# Altium schematic symbol library Motion Controller.SCHLIB: 117 symbols
Pins are listed as number, name and electrical type; pins without a type are passive.

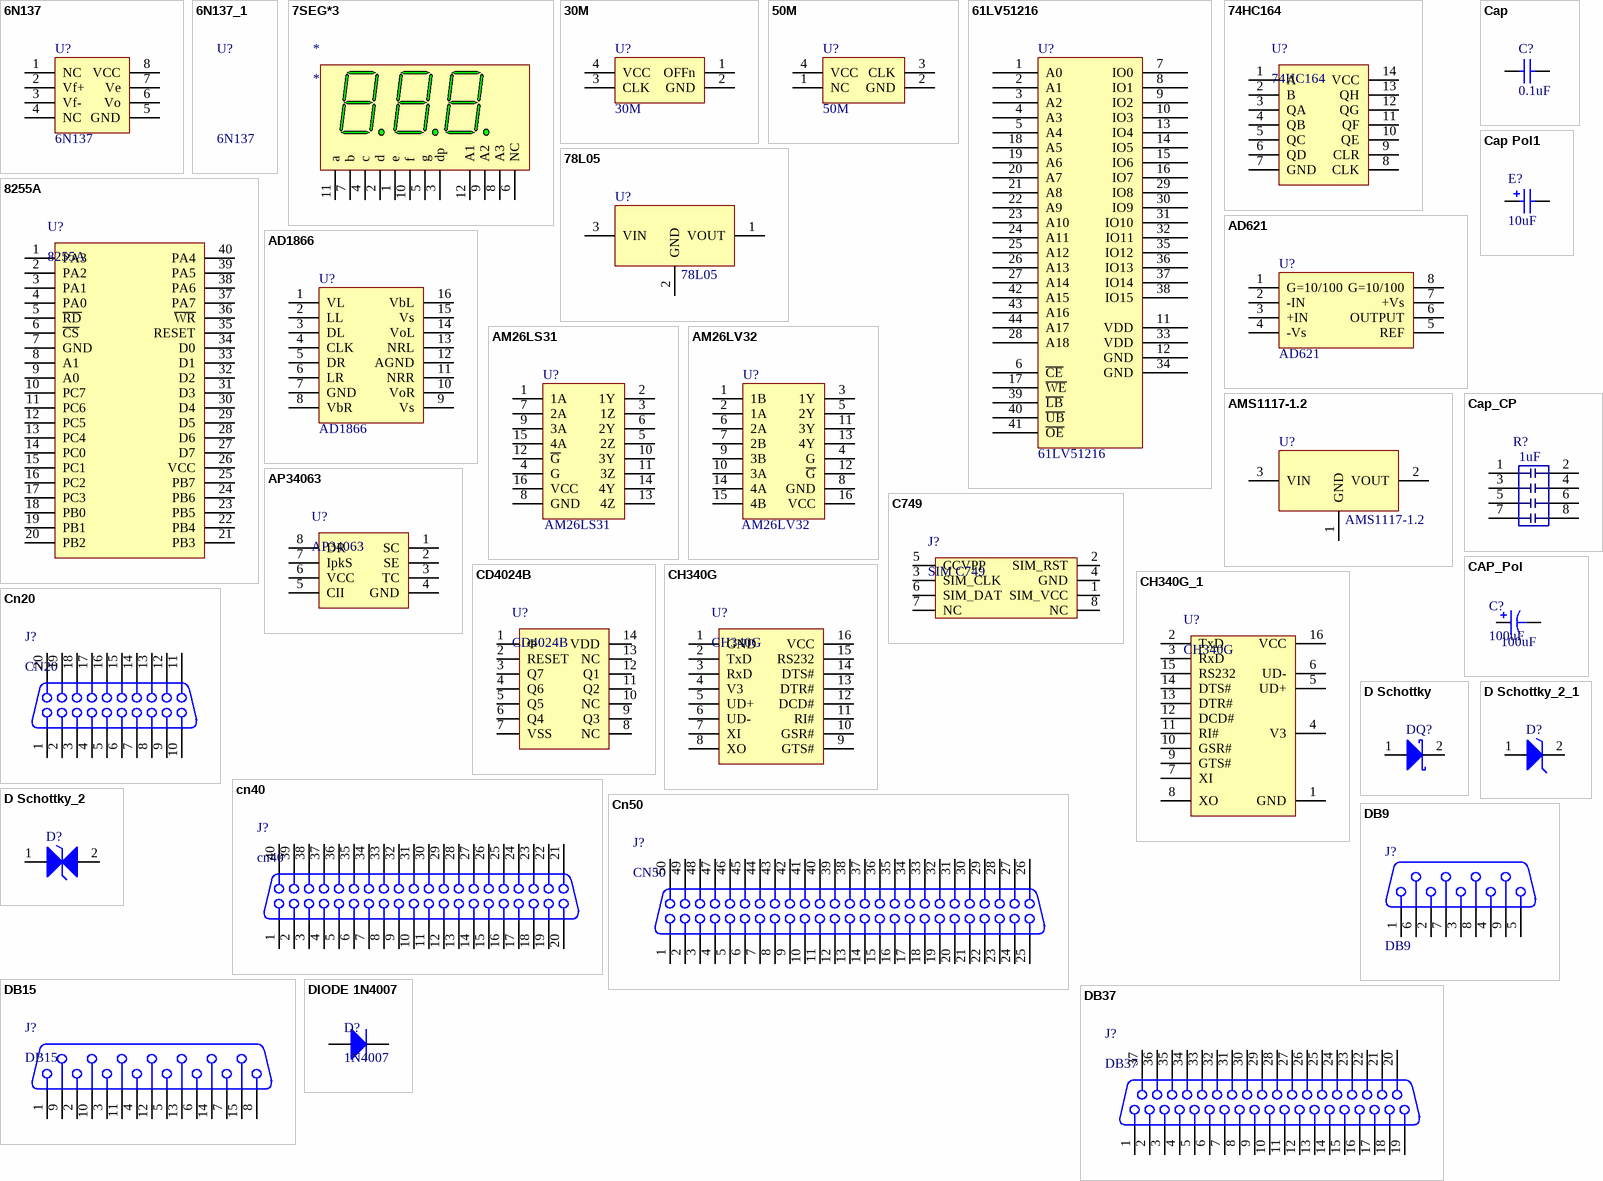
[diagram p0: symbols 6N137 to DIODE 1N4007]

## 6N137
designator U?
footprint SOP-6N137
pins: 1 NC, 2 Vf+, 3 Vf-, 4 NC, 5 GND, 6 Vo, 7 Ve, 8 VCC

## 6N137_1
designator U?, comment 6N137
footprint SOP-6N137

## 7SEG*3
designator *
pins: 1 e "Digits (1&2) Cathode", 2 d "Digits (1&2) Cathode", 3 dp "Digits (1&2) Cathode", 4 c "Digits (1&2) Cathode", 5 g "Digits (1&2) Cathode", 6 NC "Common Anode", 7 b "Digits (1&2) Cathode", 8 A3 "Common Anode", 9 A2 "Common Anode", 10 f "Digits (1&2) Cathode", 11 a "Digits (1&2) Cathode", 12 A1 "Common Anode"

## 30M
designator U?
jingzhen
footprint JingZhen
pins: 1 OFFn, 2 GND, 3 CLK, 4 VCC

## 50M
designator U?
jingzhen
footprint JingZhen
pins: 1 NC, 2 GND, 3 CLK, 4 VCC

## 61LV51216
designator U?
512K x 16
footprint TSOP-44
pins: 1 A0, 2 A1, 3 A2, 4 A3, 5 A4, 6 ~{CE}, 7 IO0, 8 IO1, 9 IO2, 10 IO3, 11 VDD, 12 GND, 13 IO4, 14 IO5, 15 IO6, 16 IO7, 17 ~{WE}, 18 A5, 19 A6, 20 A7, 21 A8, 22 A9, 23 A10, 24 A11, 25 A12, 26 A13, 27 A14, 28 A18, 29 IO8, 30 IO9, 31 IO10, 32 IO11, 33 VDD, 34 GND, 35 IO12, 36 IO13, 37 IO14, 38 IO15, 39 ~{LB}, 40 ~{UB}, 41 ~{OE}, 42 A15, 43 A16, 44 A17

## 74HC164
designator U?
pins: 1 A, 2 B, 3 QA, 4 QB, 5 QC, 6 QD, 7 GND, 8 CLK, 9 CLR, 10 QE, 11 QF, 12 QG, 13 QH, 14 VCC

## 78L05
designator U?
footprint SOT89 (SOT89, 3-Leads, Body 4.50x2.45mm, Pitch 1.50mm, Lead Span 4.1mm, IPC Medium Density)
pins: 1 VOUT, 2 GND, 3 VIN

## 8255A
designator U?
pins: 1 PA3, 2 PA2, 3 PA1, 4 PA0, 5 ~{RD}, 6 ~{CS}, 7 GND, 8 A1, 9 A0, 10 PC7, 11 PC6, 12 PC5, 13 PC4, 14 PC0, 15 PC1, 16 PC2, 17 PC3, 18 PB0, 19 PB1, 20 PB2, 21 PB3, 22 PB4, 23 PB5, 24 PB6, 25 PB7, 26 VCC, 27 D7, 28 D6, 29 D5, 30 D4, 31 D3, 32 D2, 33 D1, 34 D0, 35 RESET, 36 ~{WR}, 37 PA7, 38 PA6, 39 PA5, 40 PA4

## AD621
designator U?
footprint SOIC-8
pins: 1 G=10/100, 2 -IN, 3 +IN, 4 -Vs, 5 REF, 6 OUTPUT, 7 +Vs, 8 G=10/100

## AD1866
designator U?
footprint SOIC-16B
pins: 1 VL, 2 LL, 3 DL, 4 CLK, 5 DR, 6 LR, 7 GND, 8 VbR, 9 Vs, 10 VoR, 11 NRR, 12 AGND, 13 NRL, 14 VoL, 15 Vs, 16 VbL

## AM26LS31
designator U?
footprint SOIC-16
pins: 1 1A, 2 1Y, 3 1Z, 4 G, 5 2Z, 6 2Y, 7 2A, 8 GND, 9 3A, 10 3Y, 11 3Z, 12 ~{G}, 13 4Z, 14 4Y, 15 4A, 16 VCC

## AM26LV32
designator U?
footprint SOIC-16
pins: 1 1B, 2 1A, 3 1Y, 4 G, 5 2Y, 6 2A, 7 2B, 8 GND, 9 3B, 10 3A, 11 3Y, 12 ~{G}, 13 4Y, 14 4A, 15 4B, 16 VCC

## AMS1117-1.2
designator U?
footprint SOT230P700X180-4N (SOT223, 4-Leads, Body 6.7x7.3mm (max), Pitch 2.30mm, IPC Medium Density)
pins: 1 GND, 2 VOUT, 3 VIN

## AP34063
designator U?
pins: 1 SC, 2 SE, 3 TC, 4 GND, 5 CII, 6 VCC, 7 IpkS, 8 DR

## C749
designator J?, comment SIM C749
footprint SIM-A-Auto
pins: 1 SIM_VCC, 2 SIM_RST, 3 SIM_CLK, 4 GND, 5 CCVPP, 6 SIM_DAT, 7 NC, 8 NC

## Cap
designator C?, comment 0.1uF
Capacitor; Published: 8-Jun-2000; LatestRevisionDate: 17-Jul-2002; LatestRevisionNote: Re-released for DXP Platform.; PackageReference: RAD-0.3; Publisher: Altium Limited; Value: 0.1uF
simulation model CAP (Capacitor)
signal-integrity model Cap
footprint C0805
pins: 1, 2

## Cap Pol1
designator E?, comment 10uF
Cap Pol1; Published: 8-Jun-2000; LatestRevisionDate: 17-Jul-2002; LatestRevisionNote: Re-released for DXP Platform.; PackageReference: RB7.6-15; Publisher: Altium Limited; Value: 10uF
simulation model CAP (Capacitor)
signal-integrity model Cap Pol
footprint C3528
pins: 1, 2
1 alternate drawing of the same symbol

## Cap_CP
designator R?, comment 1uF
paizu; Value: 1uF
footprint 8P4R-0603
pins: 1 0, 2, 3, 4, 5, 6, 7, 8

## CAP_Pol
designator C?, comment 100uF
Value: 100uF
pins: 1, 2

## CD4024B
designator U?
pins: 1 Φ, 2 RESET, 3 Q7, 4 Q6, 5 Q5, 6 Q4, 7 VSS, 8 NC, 9 Q3, 10 NC, 11 Q2, 12 Q1, 13 NC, 14 VDD

## CH340G
designator U?
pins: 1 GND, 2 TxD, 3 RxD, 4 V3, 5 UD+, 6 UD-, 7 XI, 8 XO, 9 GTS#, 10 GSR#, 11 RI#, 12 DCD#, 13 DTR#, 14 DTS#, 15 RS232, 16 VCC

## CH340G_1
designator U?, comment CH340G
pins: 1 GND, 2 TxD, 3 RxD, 4 V3, 5 UD+, 6 UD-, 7 XI, 8 XO, 9 GTS#, 10 GSR#, 11 RI#, 12 DCD#, 13 DTR#, 14 DTS#, 15 RS232, 16 VCC

## Cn20
designator J?, comment CN20
pins: 1, 2, 3, 4, 5, 6, 7, 8, 9, 10, 11, 12, 13, 14, 15, 16, 17, 18, 19, 20

## cn40
designator J?
footprint CN40
pins: 1, 2, 3, 4, 5, 6, 7, 8, 9, 10, 11, 12, 13, 14, 15, 16, 17, 18, 19, 20, 21, 22, 23, 24, 25, 26, 27, 28, 29, 30, 31, 32, 33, 34, 35, 36, 37, 38, 39, 40

## Cn50
designator J?, comment CN50
footprint DB50
pins: 1, 2, 3, 4, 5, 6, 7, 8, 9, 10, 11, 12, 13, 14, 15, 16, 17, 18, 19, 20, 21, 22, 23, 24, 25, 26, 27, 28, 29, 30, 31, 32, 33, 34, 35, 36, 37, 38, 39, 40, 41, 42, 43, 44, 45, 46, 47, 48, 49, 50

## D Schottky
designator DQ?, comment 1N5822  (value not drawn)
Schottky Diode; Published: 8-Jun-2000; LatestRevisionDate: 17-Jul-2002; LatestRevisionNote: Re-released for DXP Platform.; PackageReference: SMB; Publisher: Altium Limited; Code_JEDEC: DO-214-AA
footprint SMB
simulation model SKYDIODE (Diode)
pins: 1 A, 2 K

## D Schottky_2
designator D?, comment SMBJ15CA  (value not drawn)
Schottky Diode; Published: 8-Jun-2000; LatestRevisionDate: 17-Jul-2002; LatestRevisionNote: Re-released for DXP Platform.; PackageReference: SMB; Publisher: Altium Limited; Code_JEDEC: DO-214-AA
footprint SMB
simulation model SKYDIODE (Diode)
pins: 1 A, 2 K

## D Schottky_2_1
designator D?, comment SMBJ15CA  (value not drawn)
Schottky Diode; Published: 8-Jun-2000; LatestRevisionDate: 17-Jul-2002; LatestRevisionNote: Re-released for DXP Platform.; PackageReference: SMB; Publisher: Altium Limited; Code_JEDEC: DO-214-AA
footprint SMB
simulation model SKYDIODE (Diode)
pins: 1 A, 2 K

## DB9
designator J?
footprint DB9
pins: 1, 2, 3, 4, 5, 6, 7, 8, 9

## DB15
designator J?
footprint DB15
pins: 1, 2, 3, 4, 5, 6, 7, 8, 9, 10, 11, 12, 13, 14, 15

## DB37
designator J?
footprint DB37
pins: 1, 2, 3, 4, 5, 6, 7, 8, 9, 10, 11, 12, 13, 14, 15, 16, 17, 18, 19, 20, 21, 22, 23, 24, 25, 26, 27, 28, 29, 30, 31, 32, 33, 34, 35, 36, 37

## DIODE 1N4007
designator D?, comment 1N4007
DIODE 1N4007
footprint SOD123
pins: 1 A, 2 K

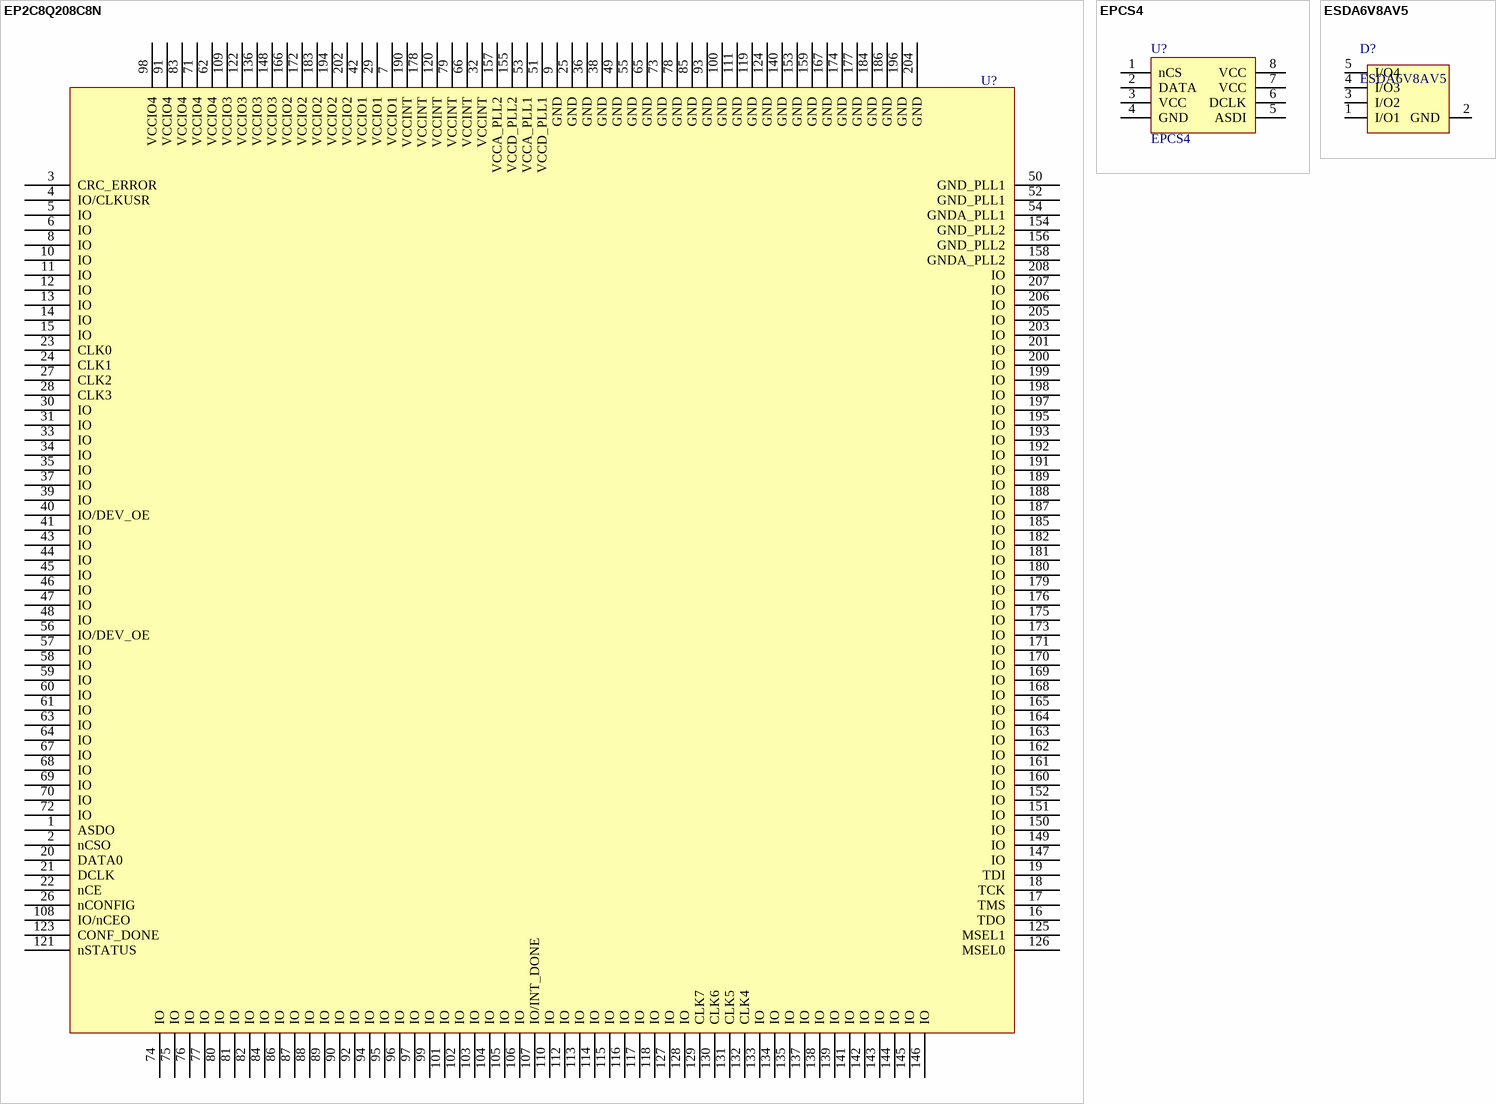
[diagram p1: symbols EP2C8Q208C8N to ESDA6V8AV5]

## EP2C8Q208C8N
designator U?  (value not drawn)
footprint EP2C8Q208C8N (SQFP, 208-Leads, Body 30.6x30.6mm (max), Pitch 0.50mm, IPC Medium Density)
pins: 1 ASDO, 2 nCSO, 3 CRC_ERROR, 4 IO/CLKUSR, 5 IO, 6 IO, 7 VCCIO1, 8 IO, 9 GND, 10 IO, 11 IO, 12 IO, 13 IO, 14 IO, 15 IO, 16 TDO, 17 TMS, 18 TCK, 19 TDI, 20 DATA0, 21 DCLK, 22 nCE, 23 CLK0, 24 CLK1, 25 GND, 26 nCONFIG, 27 CLK2, 28 CLK3, 29 VCCIO1, 30 IO, 31 IO, 32 VCCINT, 33 IO, 34 IO, 35 IO, 36 GND, 37 IO, 38 GND, 39 IO, 40 IO/DEV_OE, 41 IO, 42 VCCIO1, 43 IO, 44 IO, 45 IO, 46 IO, 47 IO, 48 IO, 49 GND, 50 GND_PLL1, 51 VCCD_PLL1, 52 GND_PLL1, 53 VCCA_PLL1, 54 GNDA_PLL1, 55 GND, 56 IO/DEV_OE, 57 IO, 58 IO, 59 IO, 60 IO, 61 IO, 62 VCCIO4, 63 IO, 64 IO, 65 GND, 66 VCCINT, 67 IO, 68 IO, 69 IO, 70 IO, 71 VCCIO4, 72 IO, 73 GND, 74 IO, 75 IO, 76 IO, 77 IO, 78 GND, 79 VCCINT, 80 IO, 81 IO, 82 IO, 83 VCCIO4, 84 IO, 85 GND, 86 IO, 87 IO, 88 IO, 89 IO, 90 IO, 91 VCCIO4, 92 IO, 93 GND, 94 IO, 95 IO, 96 IO, 97 IO, 98 VCCIO4, 99 IO, 100 GND, 101 IO, 102 IO, 103 IO, 104 IO, 105 IO, 106 IO, 107 IO/INT_DONE, 108 IO/nCEO, 109 VCCIO3, 110 IO, 111 GND, 112 IO, 113 IO, 114 IO, 115 IO, 116 IO, 117 IO, 118 IO, 119 GND, 120 VCCINT, 121 nSTATUS, 122 VCCIO3, 123 CONF_DONE, 124 GND, 125 MSEL1, 126 MSEL0, 127 IO, 128 IO, 129 CLK7, 130 CLK6, 131 CLK5, 132 CLK4, 133 IO, 134 IO, 135 IO, 136 VCCIO3, 137 IO, 138 IO, 139 IO, 140 GND, 141 IO, 142 IO, 143 IO, 144 IO, 145 IO, 146 IO, 147 IO, 148 VCCIO3, 149 IO, 150 IO, 151 IO, 152 IO, 153 GND, 154 GND_PLL2, 155 VCCD_PLL2, 156 GND_PLL2, 157 VCCA_PLL2, 158 GNDA_PLL2, 159 GND, 160 IO, 161 IO, 162 IO, 163 IO, 164 IO, 165 IO, 166 VCCIO2, 167 GND, 168 IO, 169 IO, 170 IO, 171 IO, 172 VCCIO2, 173 IO, 174 GND, 175 IO, 176 IO, 177 GND, 178 VCCINT, 179 IO, 180 IO, 181 IO, 182 IO, 183 VCCIO2, 184 GND, 185 IO, 186 GND, 187 IO, 188 IO, 189 IO, 190 VCCINT, 191 IO, 192 IO, 193 IO, 194 VCCIO2, 195 IO, 196 GND, 197 IO, 198 IO, 199 IO, 200 IO, 201 IO, 202 VCCIO2, 203 IO, 204 GND, 205 IO, 206 IO, 207 IO, 208 IO

## EPCS4
designator U?
footprint SOIC-8
pins: 1 nCS, 2 DATA, 3 VCC, 4 GND, 5 ASDI, 6 DCLK, 7 VCC, 8 VCC

## ESDA6V8AV5
designator D?
footprint SOT-553 (SOTFL, 5-Leads, Body 1.60x1.60mm, Pitch 0.50mm, IPC Medium Density)
pins: 1 I/O1, 2 GND, 3 I/O2, 4 I/O3, 5 I/O4

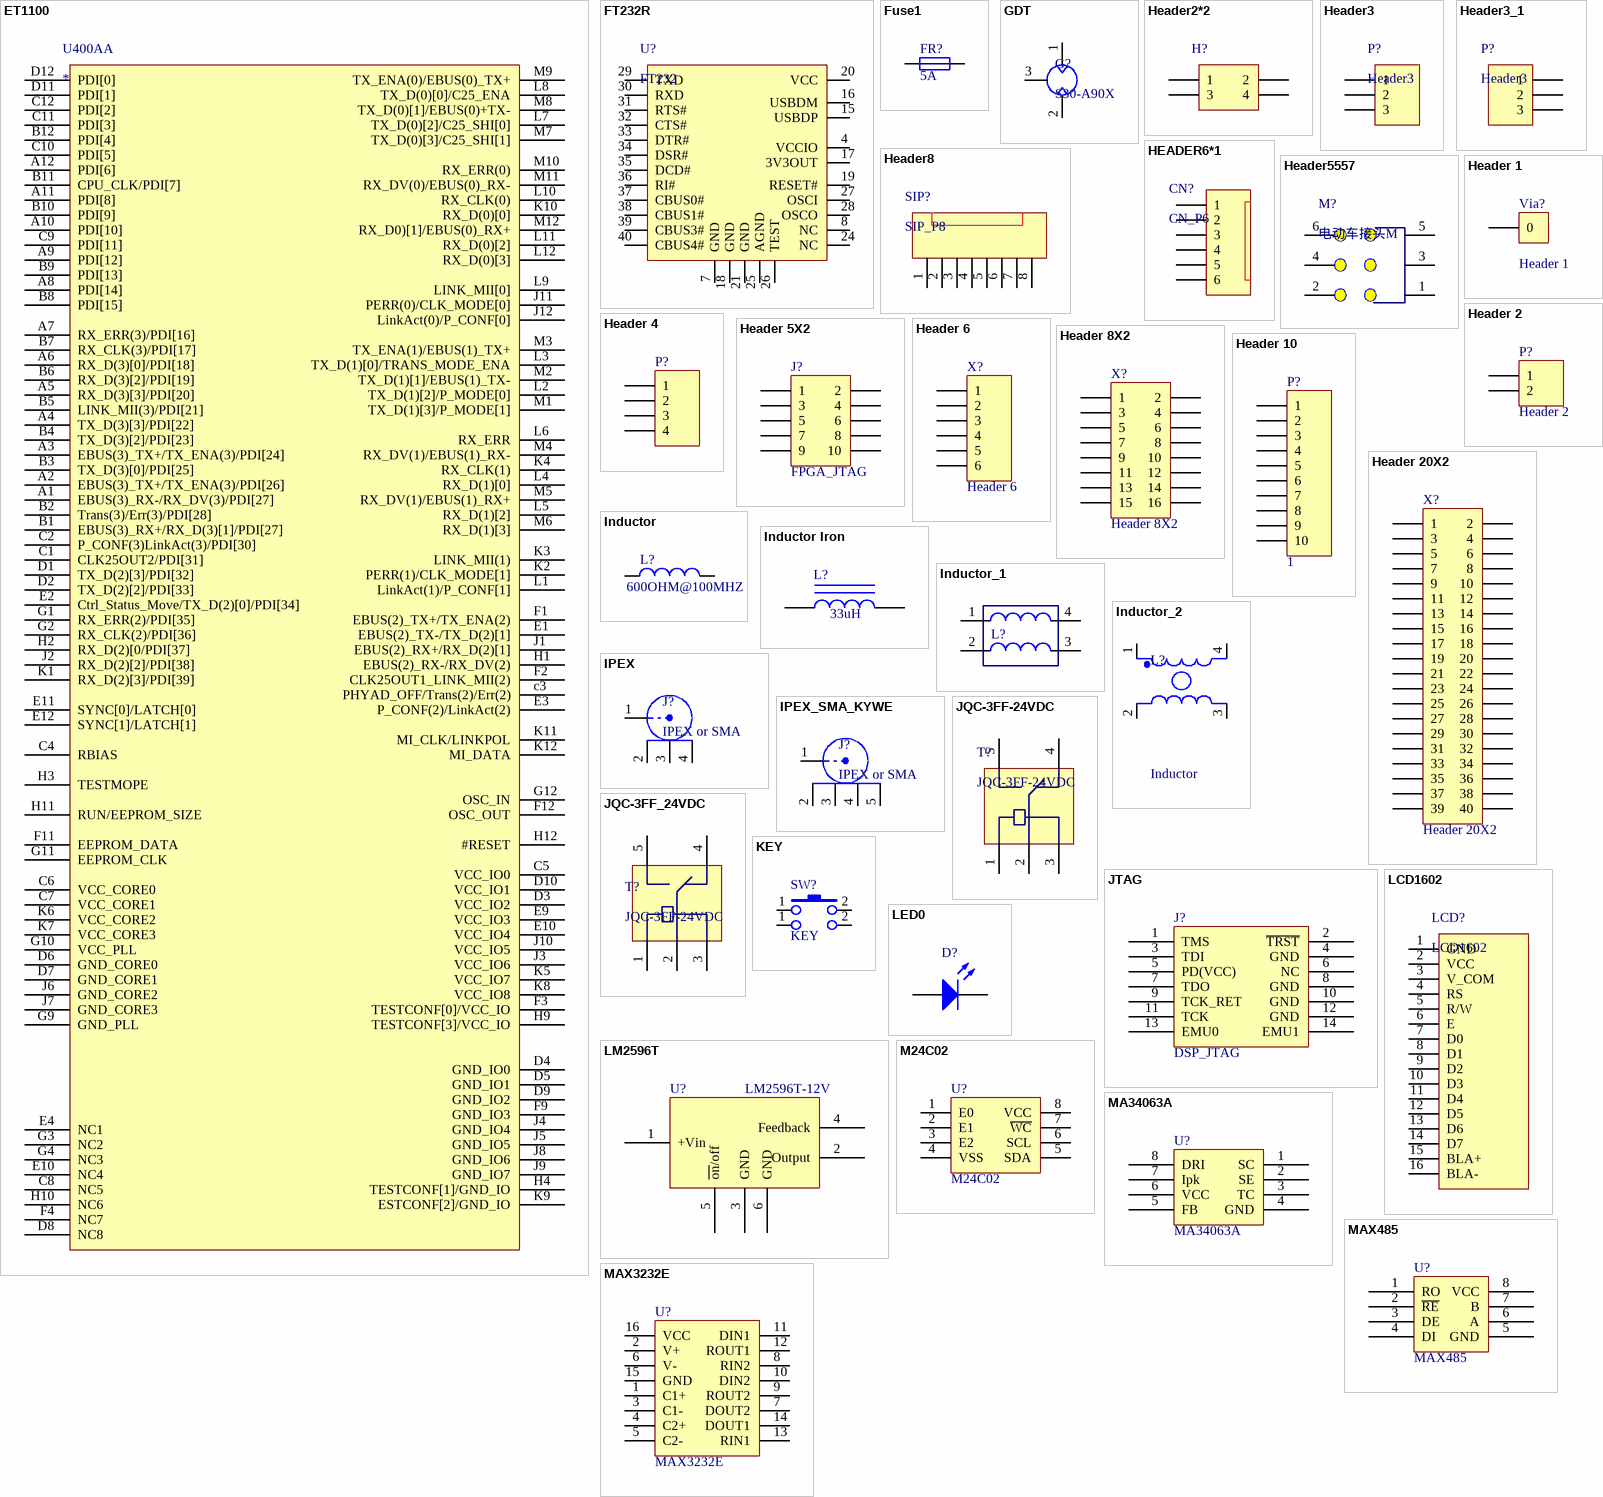
[diagram p2: symbols ET1100 to MAX3232E]

## ET1100
designator U400AA
footprint TFBGA-128
pins: A1 EBUS(3)_RX-/RX_DV(3)/PDI[27], A2 EBUS(3)_TX+/TX_ENA(3)/PDI[26], A3 EBUS(3)_TX+/TX_ENA(3)/PDI[24], A4 TX_D(3)[3]/PDI[22], A5 RX_D(3)[3]/PDI[20], A6 RX_D(3)[0]/PDI[18], A7 RX_ERR(3)/PDI[16], A8 PDI[14], A9 PDI[12], A10 PDI[10], A11 PDI[8], A12 PDI[6], B1 EBUS(3)_RX+/RX_D(3)[1]/PDI[27], B2 Trans(3)/Err(3)/PDI[28], B3 TX_D(3)[0]/PDI[25], B4 TX_D(3)[2]/PDI[23], B5 LINK_MII(3)/PDI[21], B6 RX_D(3)[2]/PDI[19], B7 RX_CLK(3)/PDI[17], B8 PDI[15], B9 PDI[13], B10 PDI[9], B11 CPU_CLK/PDI[7], B12 PDI[4], C1 CLK25OUT2/PDI[31], C2 P_CONF(3)LinkAct(3)/PDI[30], c3 PHYAD_OFF/Trans(2)/Err(2), C4 RBIAS, C5 VCC_IO0, C6 VCC_CORE0, C7 VCC_CORE1, C8 NC5, C9 PDI[11], C10 PDI[5], C11 PDI[3], C12 PDI[2], D1 TX_D(2)[3]/PDI[32], D2 TX_D(2)[2]/PDI[33], D3 VCC_IO2, D4 GND_IO0, D5 GND_IO1, D6 GND_CORE0, D7 GND_CORE1, D8 NC8, D9 GND_IO2, D10 VCC_IO1, D11 PDI[1], D12 PDI[0], E1 EBUS(2)_TX-/TX_D(2)[1], E2 Ctrl_Status_Move/TX_D(2)[0]/PDI[34], E3 P_CONF(2)/LinkAct(2), E4 NC1, E9 VCC_IO3, E10 NC4, E10 VCC_IO4, E11 SYNC[0]/LATCH[0], E12 SYNC[1]/LATCH[1], F1 EBUS(2)_TX+/TX_ENA(2), F2 CLK25OUT1_LINK_MII(2), F3 TESTCONF[0]/VCC_IO, F4 NC7, F9 GND_IO3, F11 EEPROM_DATA, F12 OSC_OUT, G1 RX_ERR(2)/PDI[35], G2 RX_CLK(2)/PDI[36], G3 NC2, G4 NC3, G9 GND_PLL, G10 VCC_PLL, G11 EEPROM_CLK, G12 OSC_IN, H1 EBUS(2)_RX-/RX_DV(2), H2 RX_D(2)[0/PDI[37], H3 TESTMOPE, H4 TESTCONF[1]/GND_IO, H9 TESTCONF[3]/VCC_IO, H10 NC6, H11 RUN/EEPROM_SIZE, H12 #RESET, J1 EBUS(2)_RX+/RX_D(2)[1], J2 RX_D(2)[2]/PDI[38], J3 VCC_IO6, J4 GND_IO4, J5 GND_IO5, J6 GND_CORE2, J7 GND_CORE3, J8 GND_IO6, J9 GND_IO7, J10 VCC_IO5, J11 PERR(0)/CLK_MODE[0], J12 LinkAct(0)/P_CONF[0], K1 RX_D(2)[3]/PDI[39], K2 PERR(1)/CLK_MODE[1], K3 LINK_MII(1), K4 RX_CLK(1), K5 VCC_IO7, K6 VCC_CORE2, K7 VCC_CORE3, K8 VCC_IO8, K9 ESTCONF[2]/GND_IO, K10 RX_D(0)[0], K11 MI_CLK/LINKPOL, K12 MI_DATA, L1 LinkAct(1)/P_CONF[1], L2 TX_D(1)[2]/P_MODE[0], L3 TX_D(1)[0]/TRANS_MODE_ENA, L4 RX_D(1)[0], L5 RX_D(1)[2], L6 RX_ERR, L7 TX_D(0)[2]/C25_SHI[0], L8 TX_D(0)[0]/C25_ENA, L9 LINK_MII[0], L10 RX_CLK(0), L11 RX_D(0)[2], L12 RX_D(0)[3], M1 TX_D(1)[3]/P_MODE[1], M2 TX_D(1)[1]/EBUS(1)_TX-, M3 TX_ENA(1)/EBUS(1)_TX+, M4 RX_DV(1)/EBUS(1)_RX-, M5 RX_DV(1)/EBUS(1)_RX+, M6 RX_D(1)[3], M7 TX_D(0)[3]/C25_SHI[1], M8 TX_D(0)[1]/EBUS(0)+TX-, M9 TX_ENA(0)/EBUS(0)_TX+, M10 RX_ERR(0), M11 RX_DV(0)/EBUS(0)_RX-, M12 RX_D0)[1]/EBUS(0)_RX+

## FT232R
designator U?, comment FT232
pins: 4 VCCIO, 7 GND, 8 NC, 15 USBDP, 16 USBDM, 17 3V3OUT, 18 GND, 19 RESET#, 20 VCC, 21 GND, 24 NC, 25 AGND, 26 TEST, 27 OSCI, 28 OSCO, 29 TXD, 30 RXD, 31 RTS#, 32 CTS#, 33 DTR#, 34 DSR#, 35 DCD#, 36 RI#, 37 CBUS0#, 38 CBUS1#, 39 CBUS3#, 40 CBUS4#

## Fuse1
designator FR?, comment 5A
Resistor; Published: 8-Jun-2000; LatestRevisionDate: 17-Jul-2002; LatestRevisionNote: Re-released for DXP Platform.; PackageReference: AXIAL-0.4; Publisher: Altium Limited; Value: 5A
simulation model RESISTOR (Resistor)
signal-integrity model Res
footprint R1206
pins: 1, 2

## GDT
designator G?, comment S30-A90X
footprint GDT 5×7.6mm
pins: 1, 2, 3

## Header2*2
designator H?, comment P2*2  (value not drawn)
pins: 1, 2, 3, 4

## Header3
designator P?
pins: 1, 2, 3

## Header3_1
designator P?, comment Header3
pins: 1, 2, 3

## HEADER6*1
designator CN?, comment CN_P6
footprint CN1*6
pins: 1, 2, 3, 4, 5, 6

## Header8
designator SIP?, comment SIP_P8
pins: 1, 2, 3, 4, 5, 6, 7, 8

## Header5557
designator M?, comment 电动车接头M
pins: 1, 2, 3, 4, 5, 6

## Header 1
designator Via?
Header, 2-Pin; LatestRevisionDate: 17-Jul-2002; LatestRevisionNote: Re-released for DXP Platform.; Publisher: Altium Limited
footprint Via
pins: 0

## Header 2
designator P?
Header, 2-Pin; LatestRevisionDate: 17-Jul-2002; LatestRevisionNote: Re-released for DXP Platform.; Publisher: Altium Limited
footprint HDR1X2
pins: 1, 2

## Header 4
designator P?  (value not drawn)
Header, 4-Pin; LatestRevisionDate: 17-Jul-2002; LatestRevisionNote: Re-released for DXP Platform.; Publisher: Altium Limited
footprint HDR1X4
pins: 1, 2, 3, 4

## Header 5X2
designator J?, comment FPGA_JTAG
Header, 5-Pin, Dual row; LatestRevisionDate: 17-Jul-2002; LatestRevisionNote: Re-released for DXP Platform.; Publisher: Altium Limited
footprint HDR2X5
pins: 1, 2, 3, 4, 5, 6, 7, 8, 9, 10

## Header 6
designator X?
Header, 6-Pin; LatestRevisionDate: 17-Jul-2002; LatestRevisionNote: Re-released for DXP Platform.; Publisher: Altium Limited
footprint HDR1X6
pins: 1, 2, 3, 4, 5, 6

## Header 8X2
designator X?
Header, 8-Pin, Dual row; LatestRevisionDate: 17-Jul-2002; LatestRevisionNote: Re-released for DXP Platform.; Publisher: Altium Limited
footprint HDR2X8
pins: 1, 2, 3, 4, 5, 6, 7, 8, 9, 10, 11, 12, 13, 14, 15, 16

## Header 10
designator P?, comment 1
Header, 10-Pin; LatestRevisionDate: 17-Jul-2002; LatestRevisionNote: Re-released for DXP Platform.; Publisher: Altium Limited
footprint HDR1X10
pins: 1, 2, 3, 4, 5, 6, 7, 8, 9, 10

## Header 20X2
designator X?
Header, 20-Pin, Dual row; LatestRevisionDate: 17-Jul-2002; LatestRevisionNote: Re-released for DXP Platform.; Publisher: Altium Limited
footprint HDR2X20
pins: 1, 2, 3, 4, 5, 6, 7, 8, 9, 10, 11, 12, 13, 14, 15, 16, 17, 18, 19, 20, 21, 22, 23, 24, 25, 26, 27, 28, 29, 30, 31, 32, 33, 34, 35, 36, 37, 38, 39, 40

## Inductor
designator L?, comment 600OHM@100MHZ
Inductor; Code_IEC: 1005; Published: 8-Jun-2000; LatestRevisionDate: 17-Jul-2002; LatestRevisionNote: Re-released for DXP Platform.; PackageReference: 0402-A; Publisher: Altium Limited; Code_JEITA: 0402; Value: 600OHM@100MHZ
simulation model INDUCTOR (Inductor)
signal-integrity model Inductor
footprint L1210
pins: 1, 2

## Inductor Iron
designator L?, comment 33uH
Magnetic-Core Inductor; Published: 24-Mar-1999; LatestRevisionDate: 17-Jul-2002; LatestRevisionNote: Re-released for DXP Platform.; PackageReference: AXIAL-0.9; Publisher: Altium Limited; Value: 33uH
footprint L-RB.2/.4
simulation model INDUCTOR (Inductor)
signal-integrity model Inductor Iron
pins: 1, 2

## Inductor_1
designator L?
Inductor; Code_IEC: 1005; Published: 8-Jun-2000; LatestRevisionDate: 17-Jul-2002; LatestRevisionNote: Re-released for DXP Platform.; PackageReference: 0402-A; Publisher: Altium Limited; Code_JEITA: 0402
simulation model INDUCTOR (Inductor)
signal-integrity model Inductor
footprint L1210
pins: 1, 2, 3, 4

## Inductor_2
designator L?, comment Inductor
Transformer (Coupled Inductor Model); Published: 8-Jun-2000; LatestRevisionDate: 17-Jul-2002; LatestRevisionNote: Re-released for DXP Platform.; PackageReference: TRF_4; Publisher: Altium Limited; PackageDescription: Transformer; 4 Leads
footprint TRF_4 (Transformer; 4 Leads)
simulation model TRANSFORMER (Transformer)
pins: 1 Sec+, 2 Pri+, 3 Pri-, 4 Sec-

## IPEX
designator J?, comment IPEX or SMA
footprint IPEX-U.FL-SMT
pins: 1 RF, 2, 3, 4

## IPEX_SMA_KYWE
designator J?, comment IPEX or SMA
footprint IPEX_SMA_KYWE
pins: 1 RF, 2, 3, 4, 5

## JQC-3FF-24VDC
designator T?
pins: 1, 2, 3, 4, 5

## JQC-3FF_24VDC
designator T?, comment JQC-3FF-24VDC
pins: 1, 2, 3, 4, 5

## JTAG
designator J?, comment DSP_JTAG
footprint HDR2X7
pins: 1 TMS, 2 ~{TRST}, 3 TDI, 4 GND, 5 PD(VCC), 6 NC, 7 TDO, 8 GND, 9 TCK_RET, 10 GND, 11 TCK, 12 GND, 13 EMU0, 14 EMU1

## KEY
designator SW?
footprint key
pins: 1, 1, 2, 2

## LCD1602
designator LCD?
pins: 1 GND, 2 VCC, 3 V_COM, 4 RS, 5 R/W, 6 E, 7 D0, 8 D1, 9 D2, 10 D3, 11 D4, 12 D5, 13 D6, 14 D7, 15 BLA+, 16 BLA-

## LED0
designator D?, comment LED green  (value not drawn)
LED1; Published: 8-Jun-2000; LatestRevisionDate: 08-Jul-2005; LatestRevisionNote: Mech Layer 1 removed.; PackageReference: LED-0; Publisher: Altium Limited
simulation model LED0 (Diode)
footprint D1210
pins: 1, 2

## LM2596T
designator U?, comment LM2596T-12V
footprint TO263
pins: 1 +Vin, 2 Output, 3 GND, 4 Feedback, 5 ~{on}/off, 6 GND

## M24C02
designator U?
2 Kbit serial I2C bus EEPROM
footprint SOIC-8
pins: 1 E0, 2 E1, 3 E2, 4 VSS, 5 SDA, 6 SCL, 7 ~{WC}, 8 VCC

## MA34063A
designator U?
footprint DIP-8
pins: 1 SC, 2 SE, 3 TC, 4 GND, 5 FB, 6 VCC, 7 Ipk, 8 DRI

## MAX485
designator U?
footprint SOIC-8
pins: 1 RO, 2 ~{RE}, 3 DE, 4 DI, 5 GND, 6 A, 7 B, 8 VCC

## MAX3232E
designator U?
3-V to 5.5-V Multichannel RS-232
footprint SOIC-16
pins: 1 C1+, 2 V+, 3 C1-, 4 C2+, 5 C2-, 6 V-, 7 DOUT2, 8 RIN2, 9 ROUT2, 10 DIN2, 11 DIN1, 12 ROUT1, 13 RIN1, 14 DOUT1, 15 GND, 16 VCC

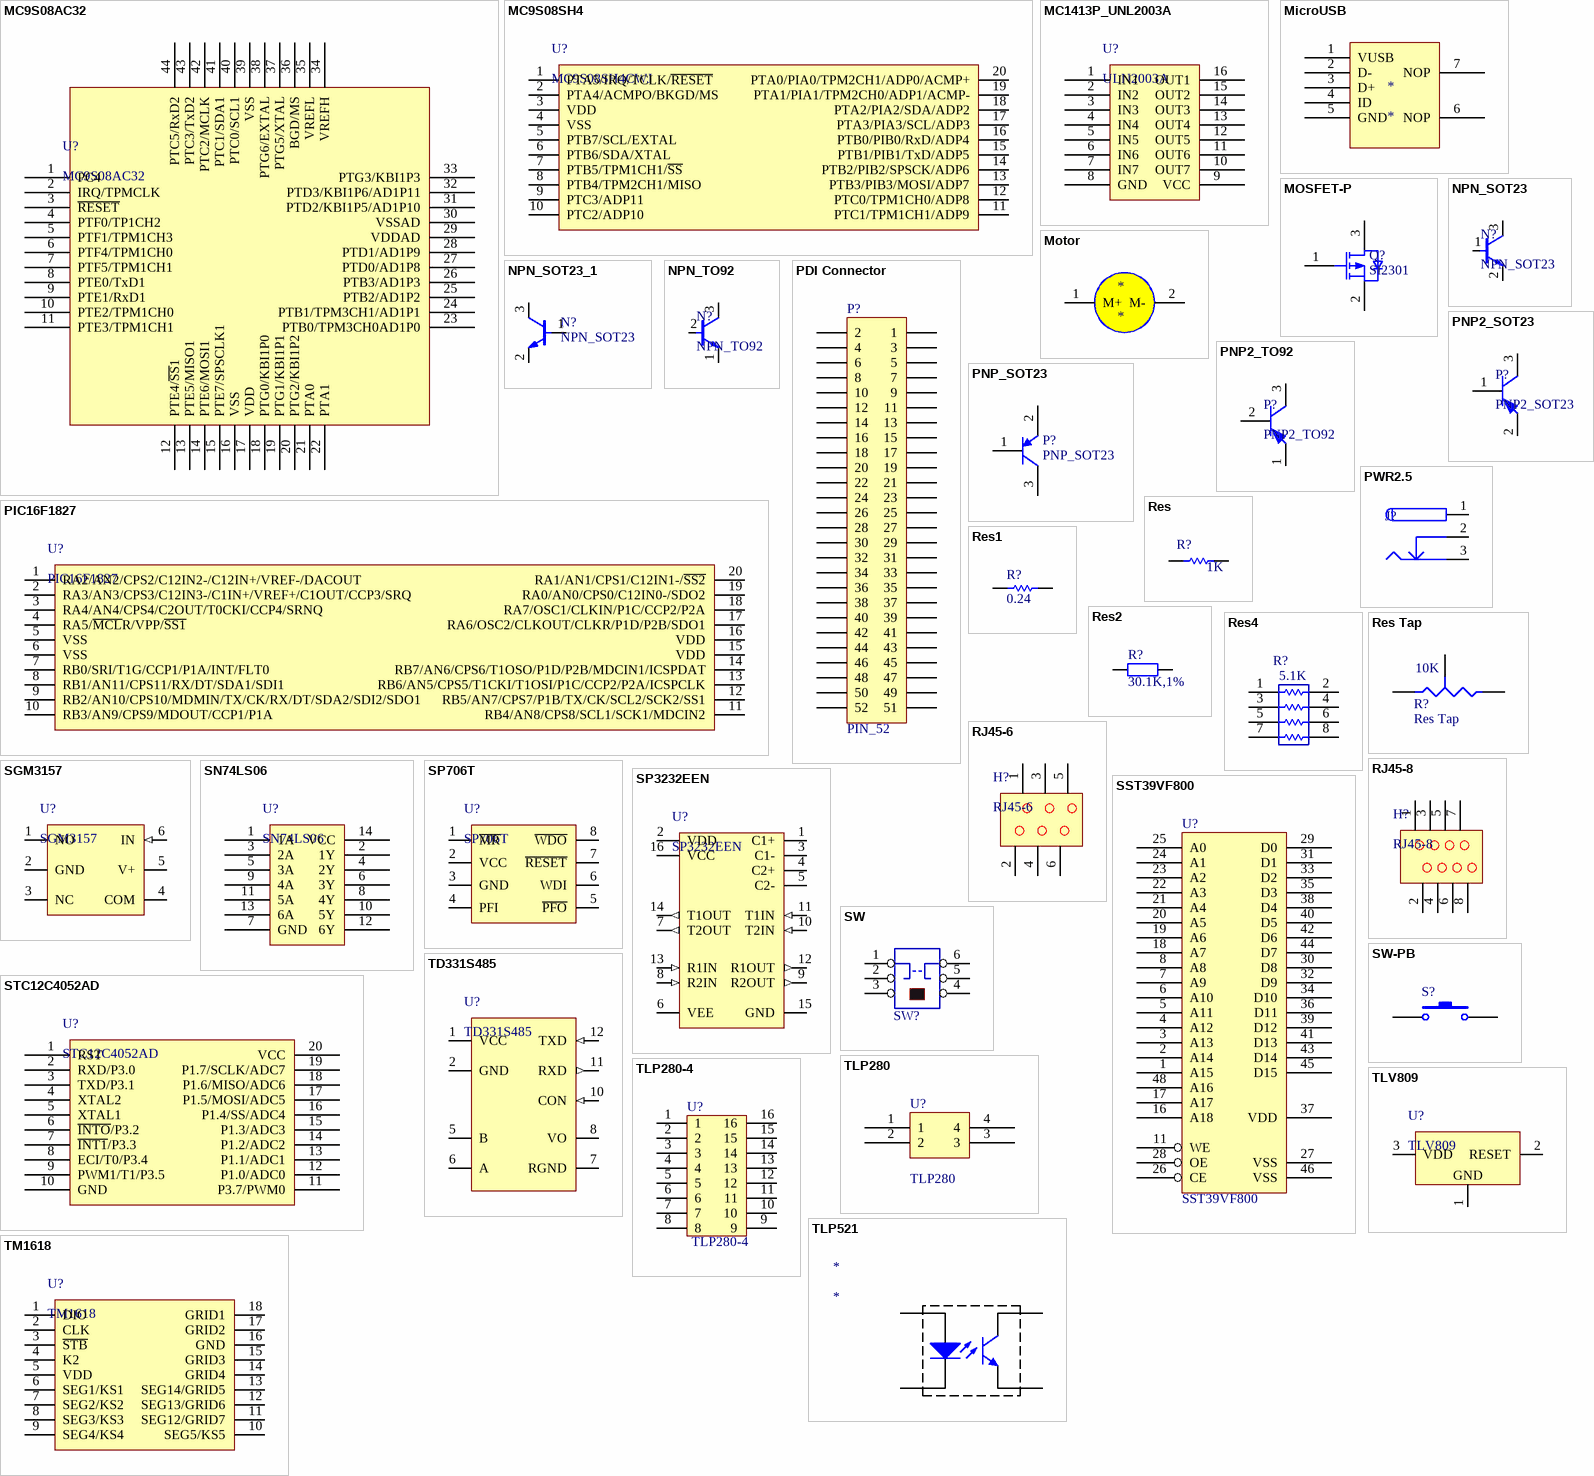
[diagram p3: symbols MC9S08AC32 to TM1618]

## MC9S08AC32
designator U?
pins: 1 PC4, 2 IRQ/TPMCLK, 3 ~{RESET}, 4 PTF0/TP1CH2, 5 PTF1/TPM1CH3, 6 PTF4/TPM1CH0, 7 PTF5/TPM1CH1, 8 PTE0/TxD1, 9 PTE1/RxD1, 10 PTE2/TPM1CH0, 11 PTE3/TPM1CH1, 12 PTE4/~{SS}1, 13 PTE5/MISO1, 14 PTE6/MOSI1, 15 PTE7/SPSCLK1, 16 VSS, 17 VDD, 18 PTG0/KBI1P0, 19 PTG1/KBI1P1, 20 PTG2/KBI1P2, 21 PTA0, 22 PTA1, 23 PTB0/TPM3CH0AD1P0, 24 PTB1/TPM3CH1/AD1P1, 25 PTB2/AD1P2, 26 PTB3/AD1P3, 27 PTD0/AD1P8, 28 PTD1/AD1P9, 29 VDDAD, 30 VSSAD, 31 PTD2/KBI1P5/AD1P10, 32 PTD3/KBI1P6/AD1P11, 33 PTG3/KBI1P3, 34 VREFH, 35 VREFL, 36 BGD/MS, 37 PTG5/XTAL, 38 PTG6/EXTAL, 39 VSS, 40 PTC0/SCL1, 41 PTC1/SDA1, 42 PTC2/MCLK, 43 PTC3/TxD2, 44 PTC5/RxD2

## MC9S08SH4
designator U?, comment MC9S08SH4CWJ
pins: 1 PTA5/IRQ/TCLK/~{RESET}, 2 PTA4/ACMPO/BKGD/MS, 3 VDD, 4 VSS, 5 PTB7/SCL/EXTAL, 6 PTB6/SDA/XTAL, 7 PTB5/TPM1CH1/~{SS}, 8 PTB4/TPM2CH1/MISO, 9 PTC3/ADP11, 10 PTC2/ADP10, 11 PTC1/TPM1CH1/ADP9, 12 PTC0/TPM1CH0/ADP8, 13 PTB3/PIB3/MOSI/ADP7, 14 PTB2/PIB2/SPSCK/ADP6, 15 PTB1/PIB1/TxD/ADP5, 16 PTB0/PIB0/RxD/ADP4, 17 PTA3/PIA3/SCL/ADP3, 18 PTA2/PIA2/SDA/ADP2, 19 PTA1/PIA1/TPM2CH0/ADP1/ACMP-, 20 PTA0/PIA0/TPM2CH1/ADP0/ACMP+

## MC1413P_UNL2003A
designator U?, comment ULN2003A
pins: 1 IN1, 2 IN2, 3 IN3, 4 IN4, 5 IN5, 6 IN6, 7 IN7, 8 GND, 9 VCC, 10 OUT7, 11 OUT6, 12 OUT5, 13 OUT4, 14 OUT3, 15 OUT2, 16 OUT1

## MicroUSB
designator *
footprint microusb (Connector; USB1.1, Type B, SM; 4 Position; Right Angle)
pins: 1 VUSB, 2 D-, 3 D+, 4 ID, 5 GND, 6 NOP, 7 NOP

## MOSFET-P
designator Q?, comment SI2301
P-Channel MOSFET; Published: 8-Jun-2000; LatestRevisionDate: 17-Jul-2002; LatestRevisionNote: Re-released for DXP Platform.; PackageVersion: 1995/1996; PackageReference: E3; Publisher: Altium Limited; PackageDescription: TO, Flat Index; 3 In-Line, Axial Leads; Body Dia. 4.6mm; Lead Dia. 0.5 mm (max)
footprint SOT-23B
simulation model PMOS (MOSFET-P)
pins: 1 G, 2 S, 3 D

## Motor
designator *
footprint JST2
pins: 1 M+, 2 M-

## NPN_SOT23
designator N?
pins: 1 B, 2 E, 3 C

## NPN_SOT23_1
designator N?, comment NPN_SOT23
pins: 1 B, 2 E, 3 C

## NPN_TO92
designator N?
pins: 1 E, 2 B, 3 C

## PDI Connector
designator P?, comment PIN_52
footprint HDR2X26
pins: 1, 2, 3, 4, 5, 6, 7, 8, 9, 10, 11, 12, 13, 14, 15, 16, 17, 18, 19, 20, 21, 22, 23, 24, 25, 26, 27, 28, 29, 30, 31, 32, 33, 34, 35, 36, 37, 38, 39, 40, 41, 42, 43, 44, 45, 46, 47, 48, 49, 50, 51, 52

## PIC16F1827
designator U?
footprint SSOP20
pins: 1 RA2/AN2/CPS2/C12IN2-/C12IN+/VREF-/DACOUT, 2 RA3/AN3/CPS3/C12IN3-/C1IN+/VREF+/C1OUT/CCP3/SRQ, 3 RA4/AN4/CPS4/C2OUT/T0CKI/CCP4/SRNQ, 4 RA5/~{MCL}R/VPP/~{SS1}, 5 VSS, 6 VSS, 7 RB0/SRI/T1G/CCP1/P1A/INT/FLT0, 8 RB1/AN11/CPS11/RX/DT/SDA1/SDI1, 9 RB2/AN10/CPS10/MDMIN/TX/CK/RX/DT/SDA2/SDI2/SDO1, 10 RB3/AN9/CPS9/MDOUT/CCP1/P1A, 11 RB4/AN8/CPS8/SCL1/SCK1/MDCIN2, 12 RB5/AN7/CPS7/P1B/TX/CK/SCL2/SCK2/SS1, 13 RB6/AN5/CPS5/T1CKI/T1OSI/P1C/CCP2/P2A/ICSPCLK, 14 RB7/AN6/CPS6/T1OSO/P1D/P2B/MDCIN1/ICSPDAT, 15 VDD, 16 VDD, 17 RA6/OSC2/CLKOUT/CLKR/P1D/P2B/SDO1, 18 RA7/OSC1/CLKIN/P1C/CCP2/P2A, 19 RA0/AN0/CPS0/C12IN0-/SDO2, 20 RA1/AN1/CPS1/C12IN1-/~{SS2}

## PNP2_SOT23
designator P?
pins: 1 B, 2 E, 3 C

## PNP2_TO92
designator P?
pins: 1 E, 2 B, 3 C

## PNP_SOT23
designator P?
Published: 8-Jun-2000; LatestRevisionDate: 17-Jul-2002; LatestRevisionNote: Re-released for DXP Platform.; PackageReference: SOT-23B; Publisher: Altium Limited; Code_JEDEC: SOT-23
footprint SOT-23B (SOT-23; 3 Leads; Body 3.0 x 2.6 mm, inc. leads (LxW max))
simulation model PNP
pins: 1 B, 2 E, 3 C

## PWR2.5
designator J?
Low Voltage Power Supply Connector; Published: 17-Dec-2003; DatasheetDocument: 09-May-2002; Publisher: Altium Limited; ComponentLink1Description: Manufacturer Link; ComponentLink1URL: http://domino.kycon.com/internet/Products.html
footprint KLD-0202 (DC Power Jack, 2.5mm, KLD Series, PCB Mount)
signal-integrity model Connector
pins: 1 (power), 2 (power), 3 (power)

## Res
designator R?, comment 1K
Value: 1K
footprint R0603
pins: 1, 2

## Res1
designator R?, comment 0.24
Resistor; Published: 8-Jun-2000; LatestRevisionDate: 17-Jul-2002; LatestRevisionNote: Re-released for DXP Platform.; PackageReference: AXIAL-0.3; Publisher: Altium Limited; Value: 0.24
footprint R-AXIAL0.7
simulation model RESISTOR (Resistor)
signal-integrity model Res
pins: 1, 2

## Res2
designator R?, comment 30.1K,1%
Resistor; Published: 8-Jun-2000; LatestRevisionDate: 17-Jul-2002; LatestRevisionNote: Re-released for DXP Platform.; PackageReference: AXIAL-0.4; Publisher: Altium Limited; Value: 30.1K,1%
simulation model RESISTOR (Resistor)
signal-integrity model Res
footprint R0805
pins: 1, 2

## Res4
designator R?, comment 5.1K
paizu; Value: 5.1K
footprint 8P4R-0603
pins: 1 0, 2, 3, 4, 5, 6, 7, 8

## Res Tap
designator R?  value 10K
Tapped Resistor; Sim Note: Enter the Resistance value and the set point into parameter fields.; Set Position: 0.5; Published: 24-Mar-1999; LatestRevisionDate: 17-Jul-2002; LatestRevisionNote: Re-released for DXP Platform.; PackageReference: VR3; Publisher: Altium Limited; PackageDescription: Variable Resistor, Thru-Hole; 3 Leads
footprint VR3 (Thru-Hole; 3 Leads)
simulation model POT (Potentiometer)
signal-integrity model Res Tap
pins: 1 A, 2 B, 3 TAP

## RJ45-6
designator H?
pins: 1, 2, 3, 4, 5, 6

## RJ45-8
designator H?
pins: 1, 2, 3, 4, 5, 6, 7, 8

## SGM3157
designator U?
pins: 1 NO, 2 GND, 3 NC, 4 COM, 5 V+, 6 IN (in)

## SN74LS06
designator U?
pins: 1 1A, 2 1Y, 3 2A, 4 2Y, 5 3A, 6 3Y, 7 GND, 8 4Y, 9 4A, 10 5Y, 11 5A, 12 6Y, 13 6A, 14 VCC

## SP706T
designator U?
pins: 1 ~{MR}, 2 VCC, 3 GND, 4 PFI, 5 ~{PFO}, 6 WDI, 7 ~{RESET}, 8 ~{WDO}

## SP3232EEN
designator U?
pins: 1 C1+, 2 VDD, 3 C1-, 4 C2+, 5 C2-, 6 VEE, 7 T2OUT (out), 8 R2IN (in), 9 R2OUT (out), 10 T2IN (in), 11 T1IN (in), 12 R1OUT (out), 13 R1IN (in), 14 T1OUT (out), 15 GND, 16 VCC

## SST39VF800
designator U?
512K x 16
footprint TSOP-48 (TSSOP, 48-Leads, Body 12.0x18.4mm (max), Pitch 0.50mm, IPC Medium Density)
pins: 1 A15, 2 A14, 3 A13, 4 A12, 5 A11, 6 A10, 7 A9, 8 A8, 11 WE, 16 A18, 17 A17, 18 A7, 19 A6, 20 A5, 21 A4, 22 A3, 23 A2, 24 A1, 25 A0, 26 CE, 27 VSS, 28 OE, 29 D0, 30 D8, 31 D1, 32 D9, 33 D2, 34 D10, 35 D3, 36 D11, 37 VDD, 38 D4, 39 D12, 40 D5, 41 D13, 42 D6, 43 D14, 44 D7, 45 D15, 46 VSS, 48 A16

## STC12C4052AD
designator U?
pins: 1 RST, 2 RXD/P3.0, 3 TXD/P3.1, 4 XTAL2, 5 XTAL1, 6 ~{INTO}/P3.2, 7 ~{INT1}/P3.3, 8 ECI/T0/P3.4, 9 PWM1/T1/P3.5, 10 GND, 11 P3.7/PWM0, 12 P1.0/ADC0, 13 P1.1/ADC1, 14 P1.2/ADC2, 15 P1.3/ADC3, 16 P1.4/SS/ADC4, 17 P1.5/MOSI/ADC5, 18 P1.6/MISO/ADC6, 19 P1.7/SCLK/ADC7, 20 VCC

## SW
designator SW?  (value not drawn)
footprint SW-6
pins: 1, 2, 3, 4, 5, 6

## SW-PB
designator S?
Switch; Published: 24-Mar-1999; LatestRevisionDate: 17-Jul-2002; LatestRevisionNote: Re-released for DXP Platform.; PackageReference: SPST-2; Publisher: Altium Limited; PackageDescription: Switch; 2 Leads
footprint SPST-2 (Switch; 2 Leads)
pins: 1, 2

## TD331S485
designator U?
footprint TDS-485
pins: 1 VCC, 2 GND, 5 B, 6 A, 7 RGND, 8 VO, 10 CON (in), 11 RXD (out), 12 TXD (in)

## TLP280
designator U?
footprint SOP-4
pins: 1, 2, 3, 4

## TLP280-4
designator U?
footprint SOP-16
pins: 1, 2, 3, 4, 5, 6, 7, 8, 9, 10, 11, 12, 13, 14, 15, 16

## TLP521
designator *
pins: 1 E, 1 A, 2 K, 3 C, 4, 5, 6, 7

## TLV809
designator U?
footprint SOT-23B
pins: 1 GND, 2 RESET, 3 VDD

## TM1618
designator U?
footprint SOP18
pins: 1 DIO, 2 CLK, 3 ~{STB}, 4 K2, 5 VDD, 6 SEG1/KS1, 7 SEG2/KS2, 8 SEG3/KS3, 9 SEG4/KS4, 10 SEG5/KS5, 11 SEG12/GRID7, 12 SEG13/GRID6, 13 SEG14/GRID5, 14 GRID4, 15 GRID3, 16 GND, 17 GRID2, 18 GRID1

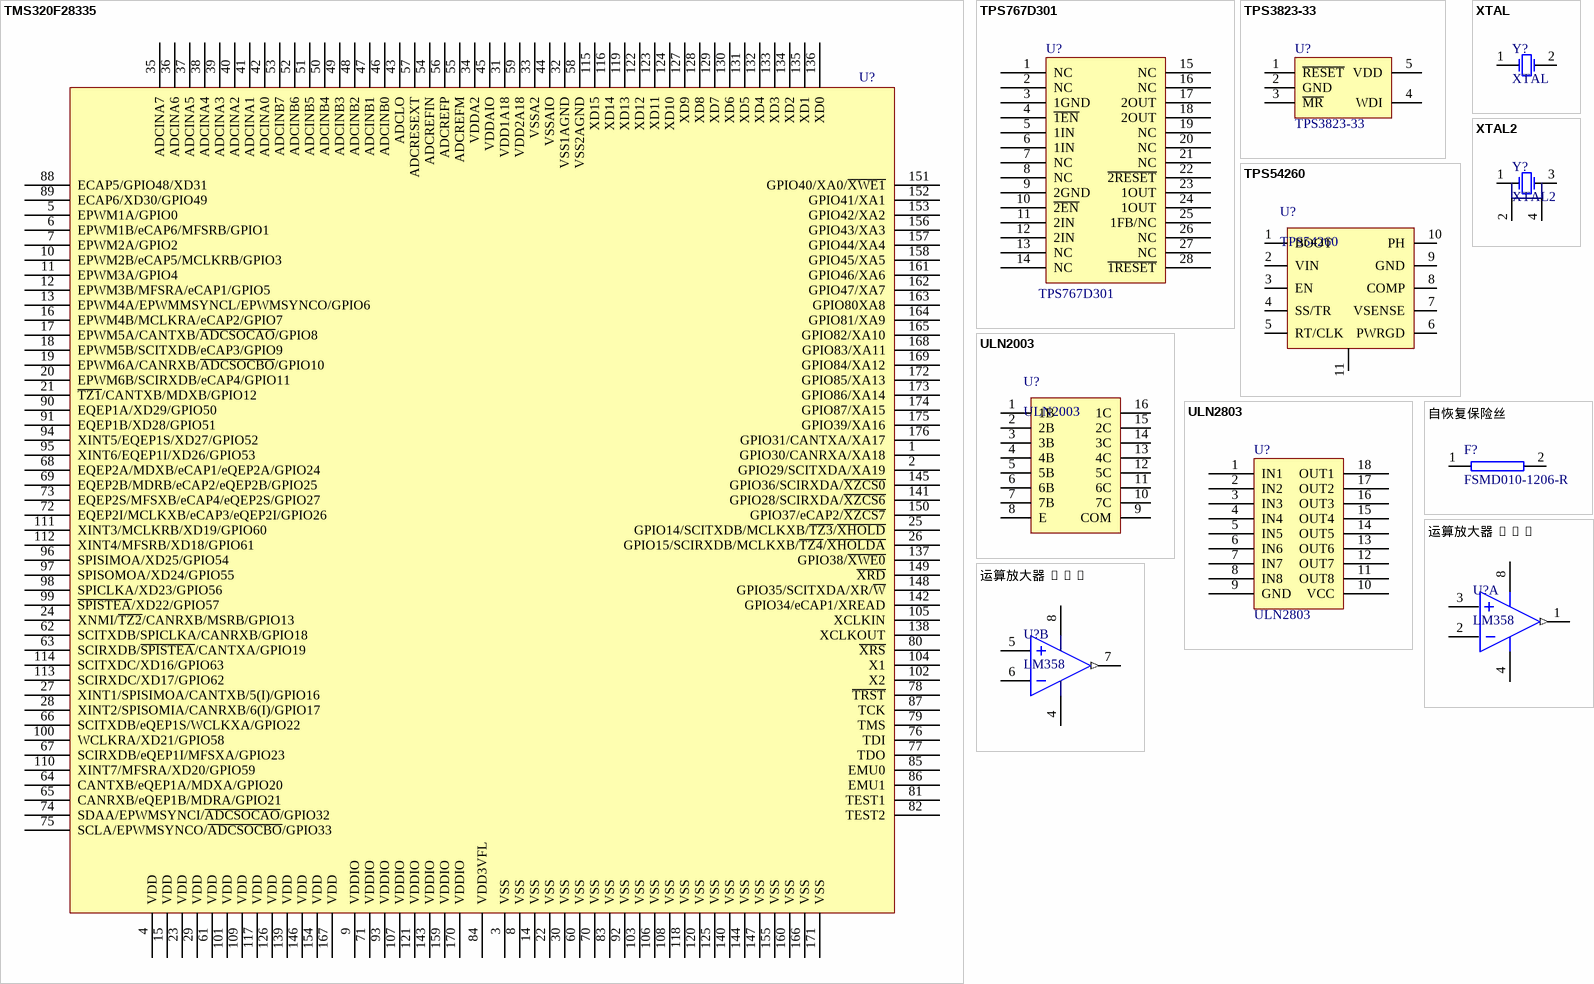
[diagram p4: symbols TMS320F28335 to 运算放大器]

## TMS320F28335
designator U?  (value not drawn)
footprint TMS320F28335 (TSQFP, 176-Leads, Body 26.2x26.2mm (max), Pitch 0.50mm, IPC Medium Density)
pins: 1 GPIO30/CANRXA/XA18, 2 GPIO29/SCITXDA/XA19, 3 VSS, 4 VDD, 5 EPWM1A/GPIO0, 6 EPWM1B/eCAP6/MFSRB/GPIO1, 7 EPWM2A/GPIO2, 8 VSS, 9 VDDIO, 10 EPWM2B/eCAP5/MCLKRB/GPIO3, 11 EPWM3A/GPIO4, 12 EPWM3B/MFSRA/eCAP1/GPIO5, 13 EPWM4A/EPWMMSYNCL/EPWMSYNCO/GPIO6, 14 VSS, 15 VDD, 16 EPWM4B/MCLKRA/eCAP2/GPIO7, 17 EPWM5A/CANTXB/~{ADCSOCAO}/GPIO8, 18 EPWM5B/SCITXDB/eCAP3/GPIO9, 19 EPWM6A/CANRXB/~{ADCSOCBO}/GPIO10, 20 EPWM6B/SCIRXDB/eCAP4/GPIO11, 21 ~{TZ1}/CANTXB/MDXB/GPIO12, 22 VSS, 23 VDD, 24 XNMI/~{TZ2}/CANRXB/MSRB/GPIO13, 25 GPIO14/SCITXDB/MCLKXB/~{TZ3}/~{XHOLD}, 26 GPIO15/SCIRXDB/MCLKXB/~{TZ4}/~{XHOLDA}, 27 XINT1/SPISIMOA/CANTXB/5(I)/GPIO16, 28 XINT2/SPISOMIA/CANRXB/6(I)/GPIO17, 29 VDD, 30 VSS, 31 VDD1A18, 32 VSS1AGND, 33 VSSA2, 34 VDDA2, 35 ADCINA7, 36 ADCINA6, 37 ADCINA5, 38 ADCINA4, 39 ADCINA3, 40 ADCINA2, 41 ADCINA1, 42 ADCINA0, 43 ADCLO, 44 VSSAIO, 45 VDDAIO, 46 ADCINB0, 47 ADCINB1, 48 ADCINB2, 49 ADCINB3, 50 ADCINB4, 51 ADCINB5, 52 ADCINB6, 53 ADCINB7, 54 ADCREFIN, 55 ADCREFM, 56 ADCREFP, 57 ADCRESEXT, 58 VSS2AGND, 59 VDD2A18, 60 VSS, 61 VDD, 62 SCITXDB/SPICLKA/CANRXB/GPIO18, 63 SCIRXDB/~{SPISTEA}/CANTXA/GPIO19, 64 CANTXB/eQEP1A/MDXA/GPIO20, 65 CANRXB/eQEP1B/MDRA/GPIO21, 66 SCITXDB/eQEP1S/WCLKXA/GPIO22, 67 SCIRXDB/eQEP1I/MFSXA/GPIO23, 68 EQEP2A/MDXB/eCAP1/eQEP2A/GPIO24, 69 EQEP2B/MDRB/eCAP2/eQEP2B/GPIO25, 70 VSS, 71 VDDIO, 72 EQEP2I/MCLKXB/eCAP3/eQEP2I/GPIO26, 73 EQEP2S/MFSXB/eCAP4/eQEP2S/GPIO27, 74 SDAA/EPWMSYNCI/~{ADCSOCAO}/GPIO32, 75 SCLA/EPWMSYNCO/~{ADCSOCBO}/GPIO33, 76 TDI, 77 TDO, 78 ~{TRST}, 79 TMS, 80 ~{XRS}, 81 TEST1, 82 TEST2, 83 VSS, 84 VDD3VFL, 85 EMU0, 86 EMU1, 87 TCK, 88 ECAP5/GPIO48/XD31, 89 ECAP6/XD30/GPIO49, 90 EQEP1A/XD29/GPIO50, 91 EQEP1B/XD28/GPIO51, 92 VSS, 93 VDDIO, 94 XINT5/EQEP1S/XD27/GPIO52, 95 XINT6/EQEP1I/XD26/GPIO53, 96 SPISIMOA/XD25/GPIO54, 97 SPISOMOA/XD24/GPIO55, 98 SPICLKA/XD23/GPIO56, 99 ~{SPISTEA}/XD22/GPIO57, 100 WCLKRA/XD21/GPIO58, 101 VDD, 102 X2, 103 VSS, 104 X1, 105 XCLKIN, 106 VSS, 107 VDDIO, 108 VSS, 109 VDD, 110 XINT7/MFSRA/XD20/GPIO59, 111 XINT3/MCLKRB/XD19/GPIO60, 112 XINT4/MFSRB/XD18/GPIO61, 113 SCIRXDC/XD17/GPIO62, 114 SCITXDC/XD16/GPIO63, 115 XD15, 116 XD14, 117 VDD, 118 VSS, 119 XD13, 120 VSS, 121 VDDIO, 122 XD12, 123 XD11, 124 XD10, 125 VSS, 126 VDD, 127 XD9, 128 XD8, 129 XD7, 130 XD6, 131 XD5, 132 XD4, 133 XD3, 134 XD2, 135 XD1, 136 XD0, 137 GPIO38/~{XWE0}, 138 XCLKOUT, 139 VDD, 140 VSS, 141 GPIO28/SCIRXDA/~{XZCS6}, 142 GPIO34/eCAP1/XREAD, 143 VDDIO, 144 VSS, 145 GPIO36/SCIRXDA/~{XZCS0}, 146 VDD, 147 VSS, 148 GPIO35/SCITXDA/XR/~{W}, 149 ~{XRD}, 150 GPIO37/eCAP2/~{XZCS7}, 151 GPIO40/XA0/~{XWE1}, 152 GPIO41/XA1, 153 GPIO42/XA2, 154 VDD, 155 VSS, 156 GPIO43/XA3, 157 GPIO44/XA4, 158 GPIO45/XA5, 159 VDDIO, 160 VSS, 161 GPIO46/XA6, 162 GPIO47/XA7, 163 GPIO80XA8, 164 GPIO81/XA9, 165 GPIO82/XA10, 166 VSS, 167 VDD, 168 GPIO83/XA11, 169 GPIO84/XA12, 170 VDDIO, 171 VSS, 172 GPIO85/XA13, 173 GPIO86/XA14, 174 GPIO87/XA15, 175 GPIO39/XA16, 176 GPIO31/CANTXA/XA17

## TPS767D301
designator U?
DUTPS767D301
footprint TMS767D301
pins: 1 NC, 2 NC, 3 1GND, 4 ~{1EN}, 5 1IN, 6 1IN, 7 NC, 8 NC, 9 2GND, 10 ~{2EN}, 11 2IN, 12 2IN, 13 NC, 14 NC, 15 NC, 16 NC, 17 2OUT, 18 2OUT, 19 NC, 20 NC, 21 NC, 22 ~{2RESET}, 23 1OUT, 24 1OUT, 25 1FB/NC, 26 NC, 27 NC, 28 ~{1RESET}

## TPS3823-33
designator U?
PROCESSOR SUPERVISORY CIRCUITS
footprint SOT23
pins: 1 ~{RESET}, 2 GND, 3 ~{MR}, 4 WDI, 5 VDD

## TPS54260
designator U?
footprint MSOP_10N (TSSOP, 10-Leads, Body 3.00x3.00mm, Pitch 0.50mm, IPC Medium Density)
pins: 1 BOOT, 2 VIN, 3 EN, 4 SS/TR, 5 RT/CLK, 6 PWRGD, 7 VSENSE, 8 COMP, 9 GND, 10 PH, 11 THER

## ULN2003
designator U?
pins: 1 1B, 2 2B, 3 3B, 4 4B, 5 5B, 6 6B, 7 7B, 8 E, 9 COM, 10 7C, 11 6C, 12 5C, 13 4C, 14 3C, 15 2C, 16 1C

## ULN2803
designator U?
footprint DIP-18
pins: 1 IN1, 2 IN2, 3 IN3, 4 IN4, 5 IN5, 6 IN6, 7 IN7, 8 IN8, 9 GND, 10 VCC, 11 OUT8, 12 OUT7, 13 OUT6, 14 OUT5, 15 OUT4, 16 OUT3, 17 OUT2, 18 OUT1

## XTAL
designator Y?
pins: 1 OSC1, 2 OSC2

## XTAL2
designator Y?
pins: 1 OSC1, 2, 3 OSC2, 4

## 自恢复保险丝
designator F?, comment FSMD010-1206-R
footprint R1206
pins: 1, 2

## 运算放大器
designator U?, comment LM358
footprint SOIC-8B
part A pins: 1 OUTA (out), 2 INA-, 3 INA+, 4 V- (power), 8 V+ (power)
part B pins: 4 V-, 5 INA+, 6 INA-, 7 OUTA (out), 8 V+